# Altium footprint library WunderBar_v102b.PcbLib: 47 footprints (part 1 of 3)
Each footprint in its own frame and in the unit in brackets; x right, y up, seen from the top. Pads: shape width x height; smd on the part's side, far side on the other; paste and mask are expansions set on the pad; w line width, h text height; cw(c..) or ccw(c..) is an arc to the next point about the centre after c.
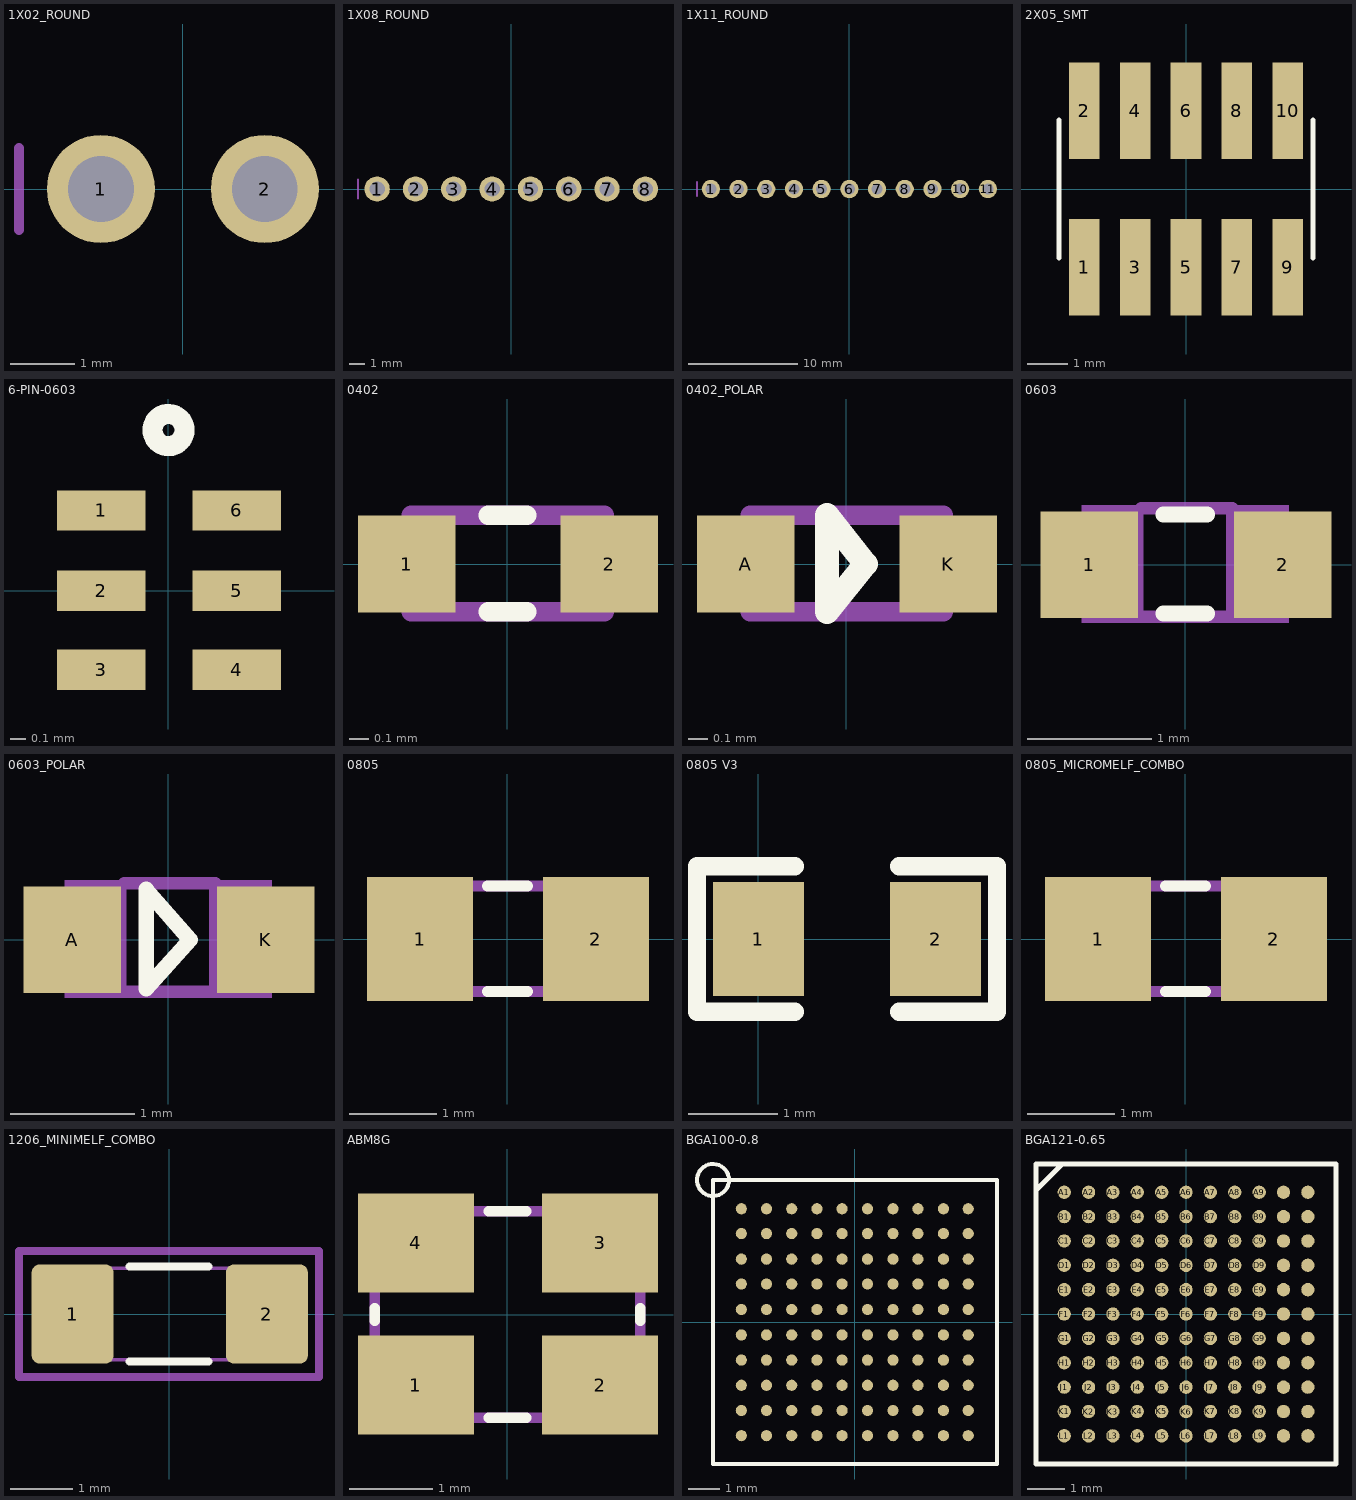
[diagram p0: the footprints below, top view; thin cyan lines are the x and y axes]

## 1X02_ROUND [mil] "1X02_ROUND"
pads (2):
  round 66 hole 40: 1(-50,0) 2(50,0)
Mechanical 16:
  rectangle: -60,-10 -40,10
  rectangle: 40,-10 60,10
  lines w6: -100,-25 -100,25

## 1X08_ROUND [mil] "1X08_ROUND"
pads (8):
  round 66 hole 40: 1(-350,0) 2(-250,0) 3(-150,0) 4(-50,0) 5(50,0) 6(150,0) 7(250,0) 8(350,0)
Mechanical 16:
  rectangle: 340,-10 360,10
  rectangle: 240,-10 260,10
  rectangle: 140,-10 160,10
  rectangle: -360,-10 -340,10
  rectangle: -260,-10 -240,10
  rectangle: -160,-10 -140,10
  rectangle: -60,-10 -40,10
  rectangle: 40,-10 60,10
  lines w6: -400,-25 -400,25

## 1X11_ROUND [mil] "1X11_ROUND"
pads (11):
  round 66 hole 40: 1(-500,0) 2(-400,0) 3(-300,0) 4(-200,0) 5(-100,0) 6(0,0) 7(100,0) 8(200,0) 9(300,0) 10(400,0) 11(500,0)
Mechanical 16:
  rectangle: -110,-10 -90,10
  rectangle: -210,-10 -190,10
  rectangle: -310,-10 -290,10
  rectangle: -410,-10 -390,10
  rectangle: -510,-10 -490,10
  rectangle: -10,-10 10,10
  rectangle: 90,-10 110,10
  rectangle: 190,-10 210,10
  rectangle: 290,-10 310,10
  rectangle: 390,-10 410,10
  rectangle: 490,-10 510,10
  lines w6: -550,-25 -550,25

## 2X05_SMT [mil] "2X05_SMT"
pads (10):
  rect 30x95 smd paste-98.43: 1(-100,-76.77) 2(-100,77) 3(-50,-76.77) 4(-50,77) 5(0,-76.77) 6(0,77) 7(50,-76.77) 8(50,77) 9(100,-76.77) 10(100,77)
Top Overlay:
  lines w5: -125,-67.52 -125,68 ; 125,-67.52 125,68

## 6-PIN-0603 [mil] "6-PIN-0603"
pads (6):
  rect 22x10 smd: 1(-16.73,20) 2(-16.73,0) 3(-16.73,-19.68) 4(17,-19.68) 5(17,0) 6(17,20)
Top Overlay:
  circle w5: c0,40 r4

## 0402 [mil] "0402"
pads (2):
  rect 20x20 smd: 1(-20.67,0) 2(21,0)
Top Overlay:
  lines w4: -3.94,-9.84 4,-9.84 ; -3.94,10 4,10
Mechanical 16:
  lines w4: -19.68,-9.84 20,-9.84 20,10 -19.68,10 -19.68,-9.84
3D body: height 19.68, standoff 0, extent -19.68,-9.84 19.69,9.85

## 0402_POLAR [mil] "0402_POLAR"
pads (2):
  rect 20x20 smd: A(-20.67,0) K(21,0)
Top Overlay:
  lines w5: -3.94,-9.84 4,0 -3.94,10 -3.94,-9.84
Mechanical 16:
  lines w4: -19.68,-9.84 20,-9.84 20,10 -19.68,10 -19.68,-9.84

## 0603 [mil] "0603"
pads (2):
  rect 31x34 smd: 1(-30.5,0) 2(31,0)
Top Overlay:
  lines w5: -7,-15.5 7,-15.5 ; -7,16 7,16
Mechanical 16:
  rectangle: 13,-18.5 33,19
  rectangle: -33,-18.5 -13.31,19
  lines w4: -14.02,-16.5 15,-16.5 ; -14.02,18 15,18

## 0603_POLAR [mil] "0603_POLAR"
pads (2):
  rect 31x34 smd: A(-30.5,0) K(31,0)
Top Overlay:
  lines w5: -7,-15.5 7,0 -7,16 -7,-15.5
Mechanical 16:
  rectangle: -33,-18.5 -13.32,19
  rectangle: 13,-18.5 33,19
  lines w4: -14.02,-16.5 15,-16.5 ; -14.02,18 15,18

## 0805 [mil] "0805_MICROMELF_COMBO"
pads (2):
  rect 48x56 smd: 1(-39.37,0) 2(40,0)
Top Overlay:
  lines w5: -9,-23.62 9,-23.62 ; -9,24 9,24
Mechanical 16:
  lines w5: -43.31,-23.62 44,-23.62 44,24 -43.31,24 -43.31,-23.62

## 0805 V3 [mil]
height 47.24
pads (2):
  rect 40x50 smd: 1(0,0) 2(78,0)
Top Overlay:
  lines w8: 16,-32 -27,-32 -27,32 16,32 ; 62,-32 105,-32 105,32 62,32

## 0805_MICROMELF_COMBO [mil] "0805_MICROMELF_COMBO"
pads (2):
  rect 48x56 smd: 1(-39.37,0) 2(40,0)
Top Overlay:
  lines w5: -9,-23.62 9,-23.62 ; -9,24 9,24
Mechanical 16:
  lines w5: -43.31,-23.62 44,-23.62 44,24 -43.31,24 -43.31,-23.62

## 1206_MINIMELF_COMBO [mil] "1206_MINIMELF_COMBO"
pads (2):
  rrect20% 52x63 smd: 1(-61.02,0) 2(62,0)
Top Overlay:
  lines w5: -25,-30 25,-30 ; -25,30 25,30
Mechanical 16:
  rectangle: -60,-30 60,-28
  rectangle: -60,28 60,30
  rectangle: 36,-30 60,30
  rectangle: -60,-30 -36,30
  lines w5: -95,-40 -95,40 95,40 95,-40 -95,-40

## ABM8G [mil] "ABM8G"
pads (4):
  rect 55x47 smd: 1(-43.5,-33.5) 2(44,-33.5) 3(44,34) 4(-43.5,34)
Top Overlay:
  lines w5: -63,-3 -63,3 ; -9,-49 9,-49 ; -9,49 9,49 ; 63,-3 63,3
Mechanical 16:
  lines w5: -63,-49 63,-49 63,49 -63,49 -63,-49

## BGA100-0.8 [mil] "BGA100-0.8"
pads (100):
  rrect100% 14x14 smd mask+3: PA1(-141.73,142) PA2(-110.24,142) PA3(-78.74,142) PA4(-47.24,142) PA5(-15.75,142) PA6(16,142) PA7(48,142) PA8(79,142) PA9(111,142) PA10(142,142) PB1(-141.73,111) PB2(-110.24,111) PB3(-78.74,111) PB4(-47.24,111) PB5(-15.75,111) PB6(16,111) PB7(48,111) PB8(79,111) PB9(111,111) PB10(142,111) PC1(-141.73,79) PC2(-110.24,79) PC3(-78.74,79) PC4(-47.24,79) PC5(-15.75,79) PC6(16,79) PC7(48,79) PC8(79,79) PC9(111,79) PC10(142,79) PD1(-141.73,48) PD2(-110.24,48) PD3(-78.74,48) PD4(-47.24,48) PD5(-15.75,48) PD6(16,48) PD7(48,48) PD8(79,48) PD9(111,48) PD10(142,48) PE1(-141.73,16) PE2(-110.24,16) PE3(-78.74,16) PE4(-47.24,16) PE5(-15.75,16) PE6(16,16) PE7(48,16) PE8(79,16) PE9(111,16) PE10(142,16) PF1(-141.73,-15.75) PF2(-110.24,-15.75) PF3(-78.74,-15.75) PF4(-47.24,-15.75) PF5(-15.75,-15.75) PF6(16,-15.75) PF7(48,-15.75) PF8(79,-15.75) PF9(111,-15.75) PF10(142,-15.75) PG1(-141.73,-47.24) PG2(-110.24,-47.24) PG3(-78.74,-47.24) PG4(-47.24,-47.24) PG5(-15.75,-47.24) PG6(16,-47.24) PG7(48,-47.24) PG8(79,-47.24) PG9(111,-47.24) PG10(142,-47.24) PH1(-141.73,-78.74) PH2(-110.24,-78.74) PH3(-78.74,-78.74) PH4(-47.24,-78.74) PH5(-15.75,-78.74) PH6(16,-78.74) PH7(48,-78.74) PH8(79,-78.74) PH9(111,-78.74) PH10(142,-78.74) PJ1(-141.73,-110.24) PJ2(-110.24,-110.24) PJ3(-78.74,-110.24) PJ4(-47.24,-110.24) PJ5(-15.75,-110.24) PJ6(16,-110.24) PJ7(48,-110.24) PJ8(79,-110.24) PJ9(111,-110.24) PJ10(142,-110.24) PK1(-141.73,-141.73) PK2(-110.24,-141.73) PK3(-78.74,-141.73) PK4(-47.24,-141.73) PK5(-15.75,-141.73) PK6(16,-141.73) PK7(48,-141.73) PK8(79,-141.73) PK9(111,-141.73) PK10(142,-141.73)
Top Overlay:
  circle w5: c-177.17,178 r20
  lines w5: -177.17,-177.17 178,-177.17 178,178 -177.17,178 -177.17,-177.17

## BGA121-0.65 [mil] "BGA100-0.8"
pads (121):
  rrect100% 14x14 smd: A1(-127.97,127.94) A2(-102.37,127.92) A3(-76.8,127.92) A4(-51.21,127.93) A5(-25.61,127.94) A6(0,127.92) A7(25.58,127.94) A8(51.18,127.93) A9(76.76,127.92) A10(102.36,127.92) A11(127.96,127.93) B1(-127.97,102.36) B2(-102.37,102.34) B3(-76.8,102.33) B4(-51.21,102.35) B5(-25.61,102.36) B6(0,102.34) B7(25.58,102.36) B8(51.18,102.35) B9(76.76,102.33) B10(102.36,102.34) B11(127.96,102.35) C1(-127.97,76.78) C2(-102.37,76.76) C3(-76.8,76.76) C4(-51.21,76.77) C5(-25.61,76.78) C6(0,76.76) C7(25.58,76.78) C8(51.18,76.77) C9(76.76,76.76) C10(102.36,76.76) C11(127.96,76.77) D1(-127.97,51.21) D2(-102.37,51.19) D3(-76.8,51.18) D4(-51.21,51.2) D5(-25.61,51.2) D6(0,51.19) D7(25.58,51.2) D8(51.18,51.2) D9(76.76,51.18) D10(102.36,51.19) D11(127.96,51.2) E1(-127.97,25.62) E2(-102.37,25.6) E3(-76.8,25.59) E4(-51.21,25.61) E5(-25.61,25.61) E6(0,25.6) E7(25.58,25.61) E8(51.18,25.61) E9(76.76,25.59) E10(102.36,25.6) E11(127.96,25.61) F1(-127.97,0.03) F2(-102.37,0.02) F3(-76.8,0.01) F4(-51.21,0.02) F5(-25.61,0.03) F6(0,0.02) F7(25.58,0.03) F8(51.18,0.02) F9(76.76,0.01) F10(102.36,0.02) F11(127.96,0.02) G1(-127.97,-25.54) G2(-102.37,-25.56) G3(-76.8,-25.57) G4(-51.21,-25.55) G5(-25.61,-25.54) G6(0,-25.56) G7(25.58,-25.54) G8(51.18,-25.55) G9(76.76,-25.57) G10(102.36,-25.56) G11(127.96,-25.55) H1(-127.97,-51.14) H2(-102.37,-51.16) H3(-76.8,-51.17) H4(-51.21,-51.15) H5(-25.61,-51.14) H6(0,-51.16) H7(25.58,-51.14) H8(51.18,-51.15) H9(76.76,-51.17) H10(102.36,-51.16) H11(127.96,-51.15) J1(-127.97,-76.75) J2(-102.37,-76.76) J3(-76.8,-76.77) J4(-51.21,-76.76) J5(-25.61,-76.75) J6(0,-76.76) J7(25.58,-76.75) J8(51.18,-76.76) J9(76.76,-76.77) J10(102.36,-76.76) J11(127.96,-76.75) K1(-127.97,-102.33) K2(-102.37,-102.35) K3(-76.8,-102.35) K4(-51.21,-102.34) K5(-25.61,-102.33) K6(0,-102.35) K7(25.58,-102.33) K8(51.18,-102.34) K9(76.76,-102.35) K10(102.36,-102.35) K11(127.96,-102.34) L1(-127.97,-127.9) L2(-102.37,-127.92) L3(-76.8,-127.93) L4(-51.21,-127.91) L5(-25.61,-127.91) L6(0,-127.92) L7(25.58,-127.91) L8(51.18,-127.91) L9(76.76,-127.93) L10(102.36,-127.92) L11(127.96,-127.91)
Top Overlay:
  lines w5: -157.58,130.1 -130.09,157.59 ; -157.48,-157.48 157.48,-157.48 157.48,157.48 -157.48,157.48 -157.48,-157.48